# EAGLE library part HEADER-2X4P (library Connector)
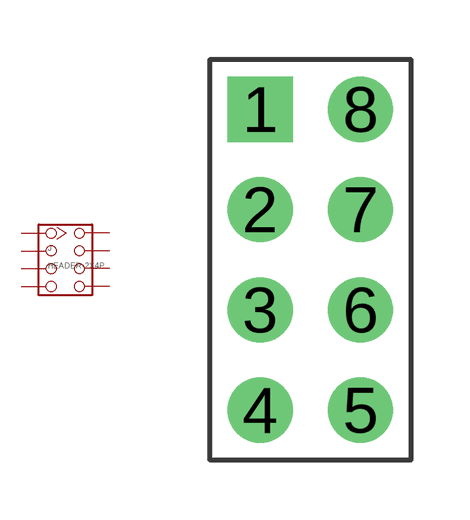
[diagram p7: symbol with the pads of 2X4P-2.54; footprint 2X4P-2.54]

Designator prefix J

## HEADER-2X4P-2.54  [2X4P-2.54]
1  1
2  2
3  3
4  4
5  5
6  6
7  7
8  8

## Footprint 2X4P-2.54 (pad centres in mm)
drill 0.889 pad 1.651 square: 1 -1.27,3.81
drill 0.889 pad 1.651 round: 2 -1.27,1.27; 3 -1.27,-1.27; 4 -1.27,-3.81; 5 1.27,-3.81; 6 1.27,-1.27; 7 1.27,1.27; 8 1.27,3.81